# EAGLE library part MODULO_MICROSD (library misc)
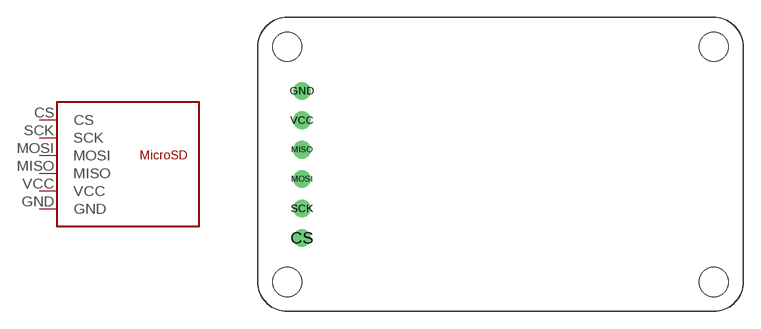
[diagram p6: symbol with the pads of MODULO_MICROSD; footprint MODULO_MICROSD]

Designator prefix MOD

## MODULO_MICROSD  [MODULO_MICROSD]
CS  CS
GND  GND  pwr
MISO  MISO
MOSI  MOSI
SCK  SCK
VCC  VCC  pwr

## Footprint MODULO_MICROSD (pad centres in mm)
drill 1.016 pad 1.524: CS 3.81,-6.35; GND 3.81,6.35; MISO 3.81,1.27; MOSI 3.81,-1.27; SCK 3.81,-3.81; VCC 3.81,3.81
hole 2.54 at 2.54,10.16
hole 2.54 at 2.54,-10.16
hole 2.54 at 39.37,-10.16
hole 2.54 at 39.37,10.16